# EAGLE library part RA02 (library HAB)
RA-02 LoRA RA-02 LoRA module with integrated u.FL connector
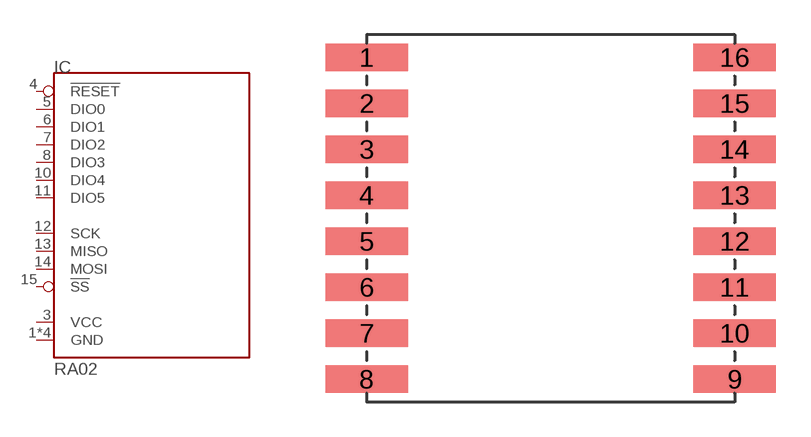
[diagram p17: symbol with the pads of RA02; footprint RA02]

Designator prefix IC

## RA02  [RA02]
1  GND  pwr
2  GND  pwr
3  VCC  pwr
4  !RESET!  in
5  DIO0
6  DIO1
7  DIO2
8  DIO3
9  GND  pwr
10  DIO4
11  DIO5
12  SCK  in
13  MISO  out
14  MOSI  in
15  !SS!  in
16  GND  pwr

## Footprint RA02 (pad centres in mm)
RA-02 LoRA package
smd 3.6 x 1.2: 1 -8,7; 2 -8,5; 3 -8,3; 4 -8,1; 5 -8,-1; 6 -8,-3; 7 -8,-5; 8 -8,-7; 9 8,-7; 10 8,-5; 11 8,-3; 12 8,-1; 13 8,1; 14 8,3; 15 8,5; 16 8,7